# Altium schematic symbol library WA-SMSI_M2.SchLib: 24 symbols
Pins are listed as number, name and electrical type; pins without a type are passive.

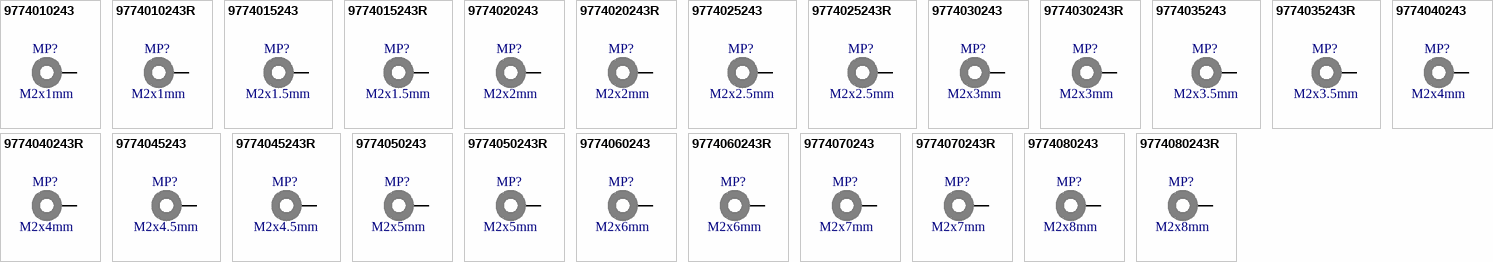
[diagram p0: symbols 9774010243 to 9774080243R]

## 9774010243
designator MP?, comment M2x1mm
WA-SMSI SMT Steel Spacer, M2 Thread Internal, OD 4.35mm, M2x1mm; Manufacturer Part Number: 9774010243; Manufacturer: Wurth Elektronik; Inner Diameter: 2.8mm; Surface: Tin; ComponentLink1Description: Manufacturer; ComponentLink1URL: http://www.we-online.de; ComponentLink2Description: Datasheet; ComponentLink2URL: https://www.we-online.com/catalog/datasheet/9774010243.pdf; Mounting Technology: SMT; Packaging: Bulk; Length: 1mm; Inner Thread Length: -; Operating Temperature: -55 to +150degC; Outer Diameter: 4.35mm; Published Date: April 2020; Material: Steel; Thread: M2
footprint 9774010243
pins: 1

## 9774010243R
designator MP?, comment M2x1mm
WA-SMSI SMT Steel Spacer, M2 Thread Internal, OD 4.35mm, M2x1mm; Manufacturer Part Number: 9774010243R; Manufacturer: Wurth Elektronik; Inner Diameter: 2.8mm; Surface: Tin; ComponentLink1Description: Manufacturer; ComponentLink1URL: http://www.we-online.de; ComponentLink2Description: Datasheet; ComponentLink2URL: https://www.we-online.com/catalog/datasheet/9774010243R.pdf; Mounting Technology: SMT; Packaging: Tape and Reel; Length: 1mm; Inner Thread Length: -; Operating Temperature: -55 to +150degC; Outer Diameter: 4.35mm; Published Date: April 2020; Material: Steel; Thread: M2
footprint 9774010243
pins: 1

## 9774015243
designator MP?, comment M2x1.5mm
WA-SMSI SMT Steel Spacer, M2 Thread Internal, OD 4.35mm, M2x1.5mm; Manufacturer Part Number: 9774015243; Manufacturer: Wurth Elektronik; Inner Diameter: 2.8mm; Surface: Tin; ComponentLink1Description: Manufacturer; ComponentLink1URL: http://www.we-online.de; ComponentLink2Description: Datasheet; ComponentLink2URL: https://www.we-online.com/catalog/datasheet/9774015243.pdf; Mounting Technology: SMT; Packaging: Bulk; Length: 1.5mm; Inner Thread Length: -; Operating Temperature: -55 to +150degC; Outer Diameter: 4.35mm; Published Date: April 2020; Material: Steel; Thread: M2
footprint 9774015243
pins: 1

## 9774015243R
designator MP?, comment M2x1.5mm
WA-SMSI SMT Steel Spacer, M2 Thread Internal, OD 4.35mm, M2x1.5mm; Manufacturer Part Number: 9774015243R; Manufacturer: Wurth Elektronik; Inner Diameter: 2.8mm; Surface: Tin; ComponentLink1Description: Manufacturer; ComponentLink1URL: http://www.we-online.de; ComponentLink2Description: Datasheet; ComponentLink2URL: https://www.we-online.com/catalog/datasheet/9774015243R.pdf; Mounting Technology: SMT; Packaging: Tape and Reel; Length: 1.5mm; Inner Thread Length: -; Operating Temperature: -55 to +150degC; Outer Diameter: 4.35mm; Published Date: April 2020; Material: Steel; Thread: M2
footprint 9774015243
pins: 1

## 9774020243
designator MP?, comment M2x2mm
WA-SMSI SMT Steel Spacer, M2 Thread Internal, OD 4.35mm, M2x2mm; Manufacturer Part Number: 9774020243; Manufacturer: Wurth Elektronik; Inner Diameter: 2.8mm; Surface: Tin; ComponentLink1Description: Manufacturer; ComponentLink1URL: http://www.we-online.de; ComponentLink2Description: Datasheet; ComponentLink2URL: https://www.we-online.com/catalog/datasheet/9774020243.pdf; Mounting Technology: SMT; Packaging: Bulk; Length: 2mm; Inner Thread Length: -; Operating Temperature: -55 to +150degC; Outer Diameter: 4.35mm; Published Date: April 2020; Material: Steel; Thread: M2
footprint 9774020243
pins: 1

## 9774020243R
designator MP?, comment M2x2mm
WA-SMSI SMT Steel Spacer, M2 Thread Internal, OD 4.35mm, M2x2mm; Manufacturer Part Number: 9774020243R; Manufacturer: Wurth Elektronik; Inner Diameter: 2.8mm; Surface: Tin; ComponentLink1Description: Manufacturer; ComponentLink1URL: http://www.we-online.de; ComponentLink2Description: Datasheet; ComponentLink2URL: https://www.we-online.com/catalog/datasheet/9774020243R.pdf; Mounting Technology: SMT; Packaging: Tape and Reel; Length: 2mm; Inner Thread Length: -; Operating Temperature: -55 to +150degC; Outer Diameter: 4.35mm; Published Date: April 2020; Material: Steel; Thread: M2
footprint 9774020243
pins: 1

## 9774025243
designator MP?, comment M2x2.5mm
WA-SMSI SMT Steel Spacer, M2 Thread Internal, OD 4.35mm, M2x2.5mm; Manufacturer Part Number: 9774025243; Manufacturer: Wurth Elektronik; Inner Diameter: 2.8mm; Surface: Tin; ComponentLink1Description: Manufacturer; ComponentLink1URL: http://www.we-online.de; ComponentLink2Description: Datasheet; ComponentLink2URL: https://www.we-online.com/catalog/datasheet/9774025243.pdf; Mounting Technology: SMT; Packaging: Bulk; Length: 2.5mm; Inner Thread Length: -; Operating Temperature: -55 to +150degC; Outer Diameter: 4.35mm; Published Date: April 2020; Material: Steel; Thread: M2
footprint 9774025243
pins: 1

## 9774025243R
designator MP?, comment M2x2.5mm
WA-SMSI SMT Steel Spacer, M2 Thread Internal, OD 4.35mm, M2x2.5mm; Manufacturer Part Number: 9774025243R; Manufacturer: Wurth Elektronik; Inner Diameter: 2.8mm; Surface: Tin; ComponentLink1Description: Manufacturer; ComponentLink1URL: http://www.we-online.de; ComponentLink2Description: Datasheet; ComponentLink2URL: https://www.we-online.com/catalog/datasheet/9774025243R.pdf; Mounting Technology: SMT; Packaging: Tape and Reel; Length: 2.5mm; Inner Thread Length: -; Operating Temperature: -55 to +150degC; Outer Diameter: 4.35mm; Published Date: April 2020; Material: Steel; Thread: M2
footprint 9774025243
pins: 1

## 9774030243
designator MP?, comment M2x3mm
WA-SMSI SMT Steel Spacer, M2 Thread Internal, OD 4.35mm, M2x3mm; Manufacturer Part Number: 9774030243; Manufacturer: Wurth Elektronik; Inner Diameter: 2.8mm; Surface: Tin; ComponentLink1Description: Manufacturer; ComponentLink1URL: http://www.we-online.de; ComponentLink2Description: Datasheet; ComponentLink2URL: https://www.we-online.com/catalog/datasheet/9774030243.pdf; Mounting Technology: SMT; Packaging: Bulk; Length: 3mm; Inner Thread Length: -; Operating Temperature: -55 to +150degC; Outer Diameter: 4.35mm; Published Date: April 2020; Material: Steel; Thread: M2
footprint 9774030243
pins: 1

## 9774030243R
designator MP?, comment M2x3mm
WA-SMSI SMT Steel Spacer, M2 Thread Internal, OD 4.35mm, M2x3mm; Manufacturer Part Number: 9774030243R; Manufacturer: Wurth Elektronik; Inner Diameter: 2.8mm; Surface: Tin; ComponentLink1Description: Manufacturer; ComponentLink1URL: http://www.we-online.de; ComponentLink2Description: Datasheet; ComponentLink2URL: https://www.we-online.com/catalog/datasheet/9774030243R.pdf; Mounting Technology: SMT; Packaging: Tape and Reel; Length: 3mm; Inner Thread Length: -; Operating Temperature: -55 to +150degC; Outer Diameter: 4.35mm; Published Date: April 2020; Material: Steel; Thread: M2
footprint 9774030243
pins: 1

## 9774035243
designator MP?, comment M2x3.5mm
WA-SMSI SMT Steel Spacer, M2 Thread Internal, OD 4.35mm, M2x3.5mm; Manufacturer Part Number: 9774035243; Manufacturer: Wurth Elektronik; Inner Diameter: 2.8mm; Surface: Tin; ComponentLink1Description: Manufacturer; ComponentLink1URL: http://www.we-online.de; ComponentLink2Description: Datasheet; ComponentLink2URL: https://www.we-online.com/catalog/datasheet/9774035243.pdf; Mounting Technology: SMT; Packaging: Bulk; Length: 3.5mm; Inner Thread Length: -; Operating Temperature: -55 to +150degC; Outer Diameter: 4.35mm; Published Date: April 2020; Material: Steel; Thread: M2
footprint 9774035243
pins: 1

## 9774035243R
designator MP?, comment M2x3.5mm
WA-SMSI SMT Steel Spacer, M2 Thread Internal, OD 4.35mm, M2x3.5mm; Manufacturer Part Number: 9774035243R; Manufacturer: Wurth Elektronik; Inner Diameter: 2.8mm; Surface: Tin; ComponentLink1Description: Manufacturer; ComponentLink1URL: http://www.we-online.de; ComponentLink2Description: Datasheet; ComponentLink2URL: https://www.we-online.com/catalog/datasheet/9774035243R.pdf; Mounting Technology: SMT; Packaging: Tape and Reel; Length: 3.5mm; Inner Thread Length: -; Operating Temperature: -55 to +150degC; Outer Diameter: 4.35mm; Published Date: April 2020; Material: Steel; Thread: M2
footprint 9774035243
pins: 1

## 9774040243
designator MP?, comment M2x4mm
WA-SMSI SMT Steel Spacer, M2 Thread Internal, OD 4.35mm, M2x4mm; Manufacturer Part Number: 9774040243; Manufacturer: Wurth Elektronik; Inner Diameter: 2.8mm; Surface: Tin; ComponentLink1Description: Manufacturer; ComponentLink1URL: http://www.we-online.de; ComponentLink2Description: Datasheet; ComponentLink2URL: https://www.we-online.com/catalog/datasheet/9774040243.pdf; Mounting Technology: SMT; Packaging: Bulk; Length: 4mm; Inner Thread Length: -; Operating Temperature: -55 to +150degC; Outer Diameter: 4.35mm; Published Date: April 2020; Material: Steel; Thread: M2
footprint 9774040243
pins: 1

## 9774040243R
designator MP?, comment M2x4mm
WA-SMSI SMT Steel Spacer, M2 Thread Internal, OD 4.35mm, M2x4mm; Manufacturer Part Number: 9774040243R; Manufacturer: Wurth Elektronik; Inner Diameter: 2.8mm; Surface: Tin; ComponentLink1Description: Manufacturer; ComponentLink1URL: http://www.we-online.de; ComponentLink2Description: Datasheet; ComponentLink2URL: https://www.we-online.com/catalog/datasheet/9774040243R.pdf; Mounting Technology: SMT; Packaging: Tape and Reel; Length: 4mm; Inner Thread Length: -; Operating Temperature: -55 to +150degC; Outer Diameter: 4.35mm; Published Date: April 2020; Material: Steel; Thread: M2
footprint 9774040243
pins: 1

## 9774045243
designator MP?, comment M2x4.5mm
WA-SMSI SMT Steel Spacer, M2 Thread Internal, OD 4.35mm, M2x4.5mm; Manufacturer Part Number: 9774045243; Manufacturer: Wurth Elektronik; Inner Diameter: 2.8mm; Surface: Tin; ComponentLink1Description: Manufacturer; ComponentLink1URL: http://www.we-online.de; ComponentLink2Description: Datasheet; ComponentLink2URL: https://www.we-online.com/catalog/datasheet/9774045243.pdf; Mounting Technology: SMT; Packaging: Bulk; Length: 4.5mm; Inner Thread Length: -; Operating Temperature: -55 to +150degC; Outer Diameter: 4.35mm; Published Date: April 2020; Material: Steel; Thread: M2
footprint 9774045243
pins: 1

## 9774045243R
designator MP?, comment M2x4.5mm
WA-SMSI SMT Steel Spacer, M2 Thread Internal, OD 4.35mm, M2x4.5mm; Manufacturer Part Number: 9774045243R; Manufacturer: Wurth Elektronik; Inner Diameter: 2.8mm; Surface: Tin; ComponentLink1Description: Manufacturer; ComponentLink1URL: http://www.we-online.de; ComponentLink2Description: Datasheet; ComponentLink2URL: https://www.we-online.com/catalog/datasheet/9774045243R.pdf; Mounting Technology: SMT; Packaging: Tape and Reel; Length: 4.5mm; Inner Thread Length: -; Operating Temperature: -55 to +150degC; Outer Diameter: 4.35mm; Published Date: April 2020; Material: Steel; Thread: M2
footprint 9774045243
pins: 1

## 9774050243
designator MP?, comment M2x5mm
WA-SMSI SMT Steel Spacer, M2 Thread Internal, OD 4.35mm, M2x5mm; Manufacturer Part Number: 9774050243; Manufacturer: Wurth Elektronik; Inner Diameter: 2.8mm; Surface: Tin; ComponentLink1Description: Manufacturer; ComponentLink1URL: http://www.we-online.de; ComponentLink2Description: Datasheet; ComponentLink2URL: https://www.we-online.com/catalog/datasheet/9774050243.pdf; Mounting Technology: SMT; Packaging: Bulk; Length: 5mm; Inner Thread Length: -; Operating Temperature: -55 to +150degC; Outer Diameter: 4.35mm; Published Date: April 2020; Material: Steel; Thread: M2
footprint 9774050243
pins: 1

## 9774050243R
designator MP?, comment M2x5mm
WA-SMSI SMT Steel Spacer, M2 Thread Internal, OD 4.35mm, M2x5mm; Manufacturer Part Number: 9774050243R; Manufacturer: Wurth Elektronik; Inner Diameter: 2.8mm; Surface: Tin; ComponentLink1Description: Manufacturer; ComponentLink1URL: http://www.we-online.de; ComponentLink2Description: Datasheet; ComponentLink2URL: https://www.we-online.com/catalog/datasheet/9774050243R.pdf; Mounting Technology: SMT; Packaging: Tape and Reel; Length: 5mm; Inner Thread Length: -; Operating Temperature: -55 to +150degC; Outer Diameter: 4.35mm; Published Date: April 2020; Material: Steel; Thread: M2
footprint 9774050243
pins: 1

## 9774060243
designator MP?, comment M2x6mm
WA-SMSI SMT Steel Spacer, M2 Thread Internal, OD 4.35mm, M2x6mm; Manufacturer Part Number: 9774060243; Manufacturer: Wurth Elektronik; Inner Diameter: 2.8mm; Surface: Tin; ComponentLink1Description: Manufacturer; ComponentLink1URL: http://www.we-online.de; ComponentLink2Description: Datasheet; ComponentLink2URL: https://www.we-online.com/catalog/datasheet/9774060243.pdf; Mounting Technology: SMT; Packaging: Bulk; Length: 6mm; Inner Thread Length: -; Operating Temperature: -55 to +150degC; Outer Diameter: 4.35mm; Published Date: April 2020; Material: Steel; Thread: M2
footprint 9774060243
pins: 1

## 9774060243R
designator MP?, comment M2x6mm
WA-SMSI SMT Steel Spacer, M2 Thread Internal, OD 4.35mm, M2x6mm; Manufacturer Part Number: 9774060243R; Manufacturer: Wurth Elektronik; Inner Diameter: 2.8mm; Surface: Tin; ComponentLink1Description: Manufacturer; ComponentLink1URL: http://www.we-online.de; ComponentLink2Description: Datasheet; ComponentLink2URL: https://www.we-online.com/catalog/datasheet/9774060243R.pdf; Mounting Technology: SMT; Packaging: Tape and Reel; Length: 6mm; Inner Thread Length: -; Operating Temperature: -55 to +150degC; Outer Diameter: 4.35mm; Published Date: April 2020; Material: Steel; Thread: M2
footprint 9774060243
pins: 1

## 9774070243
designator MP?, comment M2x7mm
WA-SMSI SMT Steel Spacer, M2 Thread Internal, OD 4.35mm, M2x7mm; Manufacturer Part Number: 9774070243; Manufacturer: Wurth Elektronik; Inner Diameter: 2.8mm; Surface: Tin; ComponentLink1Description: Manufacturer; ComponentLink1URL: http://www.we-online.de; ComponentLink2Description: Datasheet; ComponentLink2URL: https://www.we-online.com/catalog/datasheet/9774070243.pdf; Mounting Technology: SMT; Packaging: Bulk; Length: 7mm; Inner Thread Length: -; Operating Temperature: -55 to +150degC; Outer Diameter: 4.35mm; Published Date: April 2020; Material: Steel; Thread: M2
footprint 9774070243
pins: 1

## 9774070243R
designator MP?, comment M2x7mm
WA-SMSI SMT Steel Spacer, M2 Thread Internal, OD 4.35mm, M2x7mm; Manufacturer Part Number: 9774070243R; Manufacturer: Wurth Elektronik; Inner Diameter: 2.8mm; Surface: Tin; ComponentLink1Description: Manufacturer; ComponentLink1URL: http://www.we-online.de; ComponentLink2Description: Datasheet; ComponentLink2URL: https://www.we-online.com/catalog/datasheet/9774070243R.pdf; Mounting Technology: SMT; Packaging: Tape and Reel; Length: 7mm; Inner Thread Length: -; Operating Temperature: -55 to +150degC; Outer Diameter: 4.35mm; Published Date: April 2020; Material: Steel; Thread: M2
footprint 9774070243
pins: 1

## 9774080243
designator MP?, comment M2x8mm
WA-SMSI SMT Steel Spacer, M2 Thread Internal, OD 4.35mm, M2x8mm; Manufacturer Part Number: 9774080243; Manufacturer: Wurth Elektronik; Inner Diameter: 2.8mm; Surface: Tin; ComponentLink1Description: Manufacturer; ComponentLink1URL: http://www.we-online.de; ComponentLink2Description: Datasheet; ComponentLink2URL: https://www.we-online.com/catalog/datasheet/9774080243.pdf; Mounting Technology: SMT; Packaging: Bulk; Length: 8mm; Inner Thread Length: -; Operating Temperature: -55 to +150degC; Outer Diameter: 4.35mm; Published Date: April 2020; Material: Steel; Thread: M2
footprint 9774080243
pins: 1

## 9774080243R
designator MP?, comment M2x8mm
WA-SMSI SMT Steel Spacer, M2 Thread Internal, OD 4.35mm, M2x8mm; Manufacturer Part Number: 9774080243R; Manufacturer: Wurth Elektronik; Inner Diameter: 2.8mm; Surface: Tin; ComponentLink1Description: Manufacturer; ComponentLink1URL: http://www.we-online.de; ComponentLink2Description: Datasheet; ComponentLink2URL: https://www.we-online.com/catalog/datasheet/9774080243R.pdf; Mounting Technology: SMT; Packaging: Tape and Reel; Length: 8mm; Inner Thread Length: -; Operating Temperature: -55 to +150degC; Outer Diameter: 4.35mm; Published Date: April 2020; Material: Steel; Thread: M2
footprint 9774080243
pins: 1